# Altium integrated library 826926-3.IntLib: 1 symbol
Pins are listed as number, name and electrical type; pins without a type are passive.

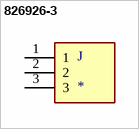
[diagram p0: symbol 826926-3]

## 826926-3
designator J
Pin header; pin strips; AMPMODU MOD II; male; PIN: 3; straight; MP: 826926-3; Product_Type: Connector; Centerline_Pitch: 2.54 mm[.1 in]; MF: TE Connectivity; Number_of_Positions: 3; Availability: Unavailable; Value: *; Package: None; SnapEDA_Link: https://www.snapeda.com/parts/826926-3/TE%20Connectivity%20AMP%20Connectors/view-part/442070/?ref=snap; TE_purchase_URL: https://www.te.com/usa-en/product-826926-3.html?te_bu=Cor&te_type=disp&te_campaign=seda_glo_cor-seda-global-disp-prtnr-fy19-seda-model-bom-cta_sma-317_1&elqCampaignId=32493; EU_RoHS_Compliance: Compliant; Price: None
footprint TE_826926-3
pins: 1, 2, 3